# EAGLE library part FLIPPER-GPIO-10-RA (library flipper-gpio)
Flipper Zero 10-pin Right-angle GPIO connector See Measures layer in Board view for mechanical dimensions of the board outline and how it relates to this header. The Flipper_GPIO_Dimension (100) layer in Board view contains a pre-made outline that matches the Flipper Zero documentation. This can be included as the board outline, but be sure that these exactly line up with the existing outline! See Info layer in Schematic view for table of all of the pin MUX settings.
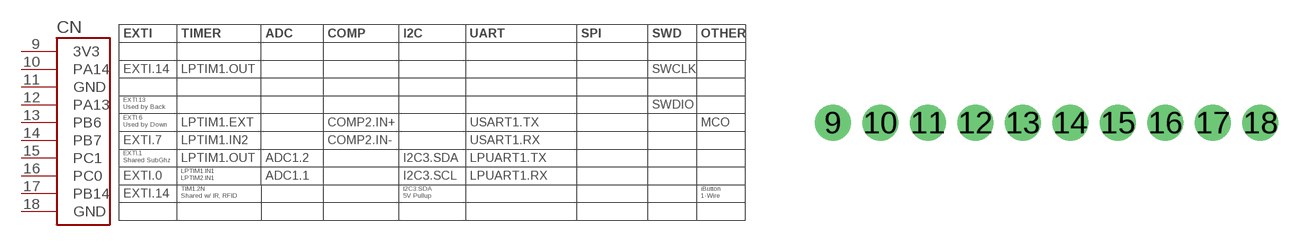
[diagram p1: symbol with the pads of FLIPPER-GPIO-10-RA; footprint FLIPPER-GPIO-10-RA]

Designator prefix CN

## FLIPPER-GPIO-10-RA  [FLIPPER-GPIO-10-RA]
9  3V3
10  PA14
11  GND
12  PA13
13  PB6
14  PB7
15  PC1
16  PC0
17  PB14
18  GND

## Footprint FLIPPER-GPIO-10-RA (pad centres in mm)
Flipper Zero 10-pin Right-angle GPIO connector See Measures layer for mechanical dimensions of the board outline and how it relates to this header. The Flipper_GPIO_Dimension (100) layer contains a pre-made outline that matches the Flipper Zero documentation. This can be included as the board outline, but be sure that these exactly line up with the existing outline!
drill 1.016 pad 1.93: 9 0,0; 10 2.54,0; 11 5.08,0; 12 7.62,0; 13 10.16,0; 14 12.7,0; 15 15.24,0; 16 17.78,0; 17 20.32,0; 18 22.86,0